# EAGLE library part 74ABT125 (library Dal_V2)
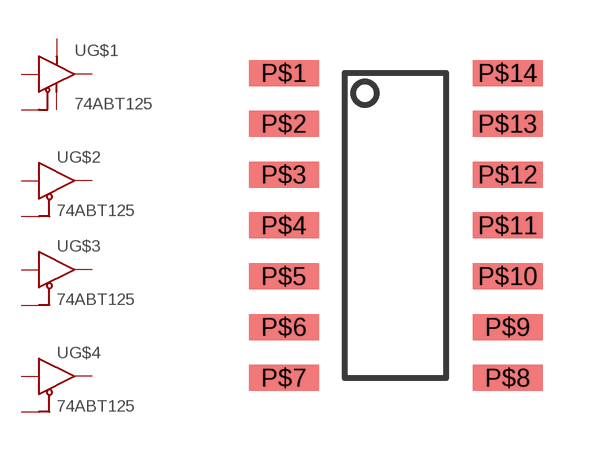
[diagram p26: symbol with the pads of SO16LNB-14PIN; footprint SO16LNB-14PIN]

Designator prefix U; gates G$1=BUFFER_PWR G$2=BUFFER G$3=BUFFER G$4=BUFFER

## 74ABT125-D  [SO16LNB-14PIN]
P$1  G$1:OE  pas
P$2  G$1:IN  pas
P$3  G$1:OUT  pas
P$4  G$2:OE  pas
P$5  G$2:IN  pas
P$6  G$2:OUT  pas
P$7  G$1:GND  pas
P$8  G$3:OUT  pas
P$9  G$3:IN  pas
P$10  G$3:OE  pas
P$11  G$4:OUT  pas
P$12  G$4:IN  pas
P$13  G$4:OE  pas
P$14  G$1:VCC  pas

## Footprint SO16LNB-14PIN (pad centres in mm)
16-Lead SOIC Narrow Body Taken from Fairchild Datasheet for transistor array (MMPQ3904) Should also work for Texas Instruments, LM2902KD
smd 1.75 x 0.65: P$1 0,0; P$2 0,-1.27; P$3 0,-2.54; P$4 0,-3.81; P$5 0,-5.08; P$6 0,-6.35; P$7 0,-7.62; P$8 5.6,-7.62; P$9 5.6,-6.35; P$10 5.6,-5.08; P$11 5.6,-3.81; P$12 5.6,-2.54; P$13 5.6,-1.27; P$14 5.6,0